# Altium schematic symbol library triac_1.Schlib: 1 symbol
Pins are listed as number, name and electrical type; pins without a type are passive.

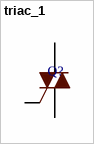
[diagram p0: symbol triac_1]

## triac_1
designator Q?  (value not drawn)
Triac Symbol, intended for D2PAK
pins: 1 M1, 3 G, 4 M2